# Altium schematic symbol library Schlib1.SchLib: 1 symbol
Pins are listed as number, name and electrical type; pins without a type are passive.

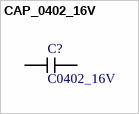
[diagram p0: symbol CAP_0402_16V]

## CAP_0402_16V
designator C?, comment C0402_16V
Capactiro SMD 0402 16V
pins: C? 100n, C? 100n